# Altium footprint library PWR578A.PcbLib: 62 footprints (part 3 of 4)
Each footprint in its own frame and in the unit in brackets; x right, y up, seen from the top. Pads: shape width x height; smd on the part's side, far side on the other; paste and mask are expansions set on the pad; w line width, h text height; cw(c..) or ccw(c..) is an arc to the next point about the centre after c.
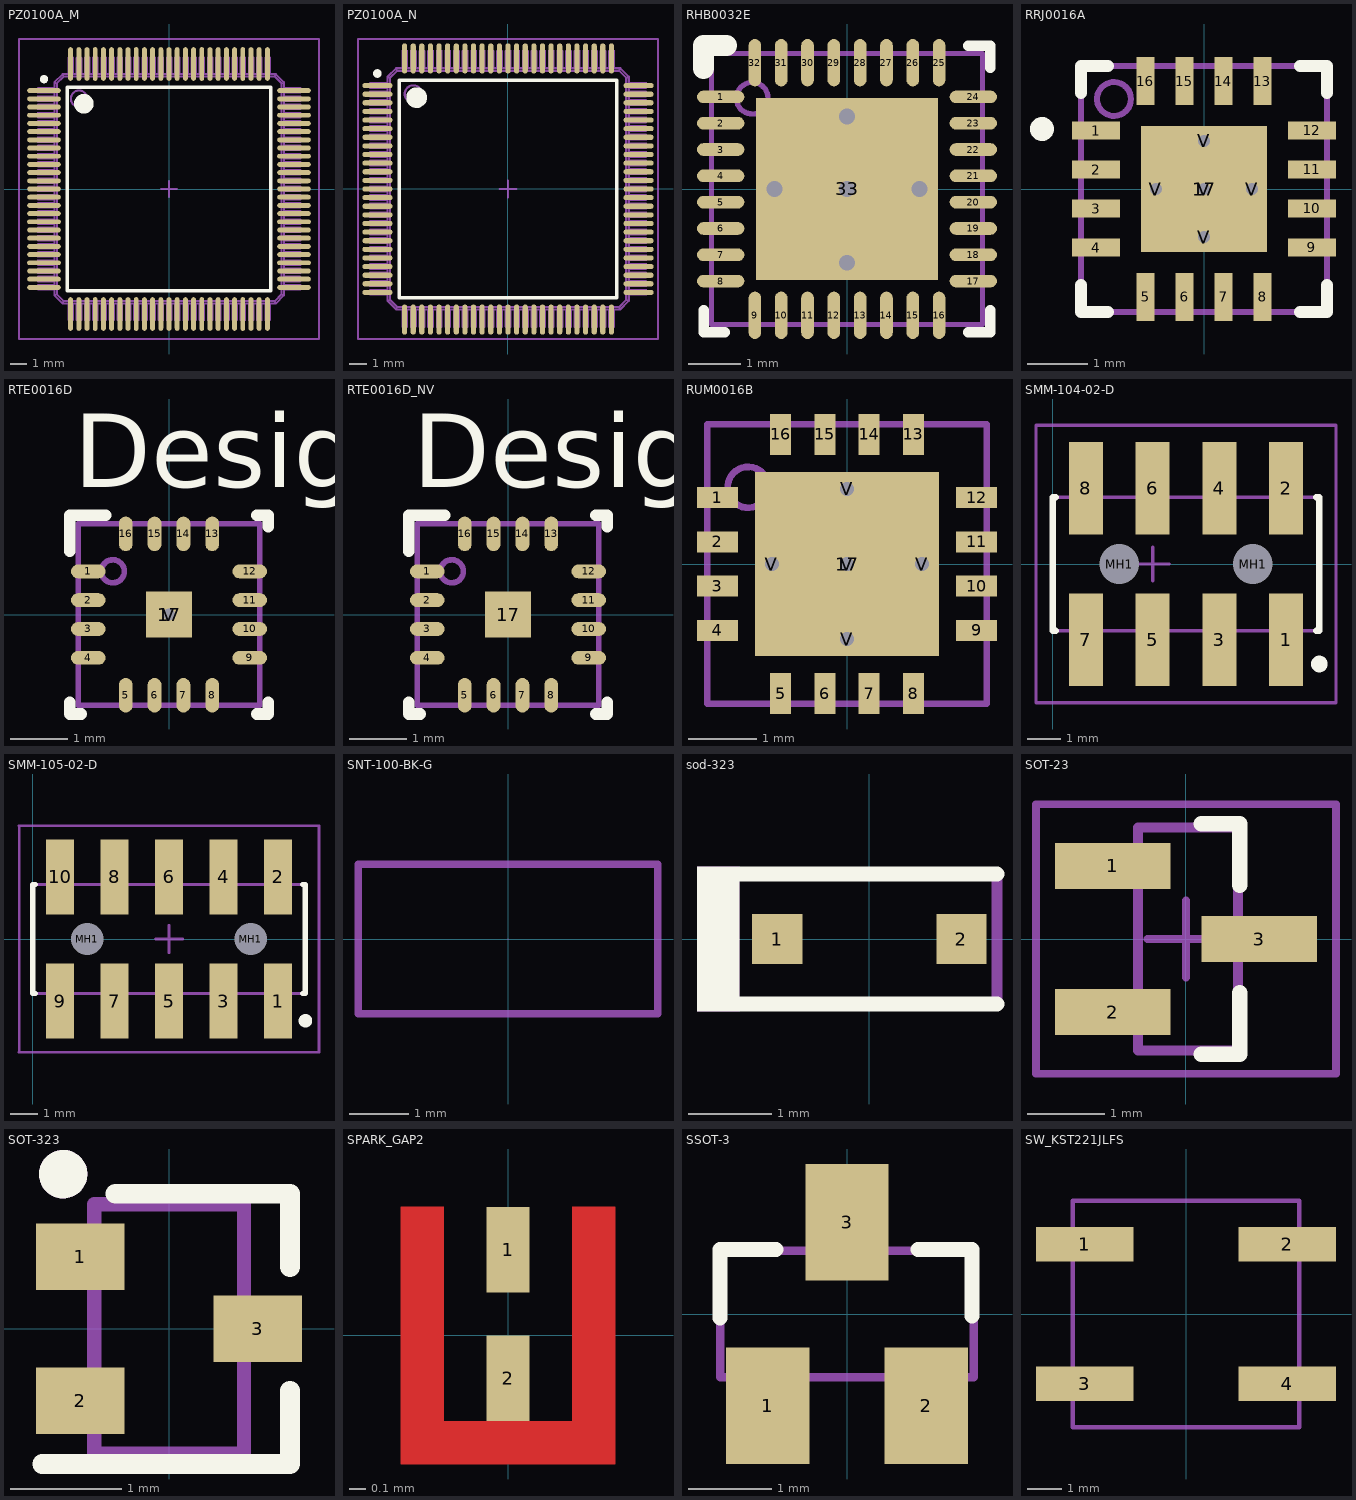
[diagram p2: the footprints below, top view; thin cyan lines are the x and y axes]

## PZ0100A_M [mm]
pads (100):
  oval 2.05x0.3 smd paste+0 mask+0.051: 1(-7.625,6) 2(-7.625,5.5) 3(-7.625,5) 4(-7.625,4.5) 5(-7.625,4) 6(-7.625,3.5) 7(-7.625,3) 8(-7.625,2.5) 9(-7.625,2) 10(-7.625,1.5) 11(-7.625,1) 12(-7.625,0.5) 13(-7.625,0) 14(-7.625,-0.5) 15(-7.625,-1) 16(-7.625,-1.5) 17(-7.625,-2) 18(-7.625,-2.5) 19(-7.625,-3) 20(-7.625,-3.5) 21(-7.625,-4) 22(-7.625,-4.5) 23(-7.625,-5) 24(-7.625,-5.5) 25(-7.625,-6) 51(7.625,-6) 52(7.625,-5.5) 53(7.625,-5) 54(7.625,-4.5) 55(7.625,-4) 56(7.625,-3.5) 57(7.625,-3) 58(7.625,-2.5) 59(7.625,-2) 60(7.625,-1.5) 61(7.625,-1) 62(7.625,-0.5) 63(7.625,0) 64(7.625,0.5) 65(7.625,1) 66(7.625,1.5) 67(7.625,2) 68(7.625,2.5) 69(7.625,3) 70(7.625,3.5) 71(7.625,4) 72(7.625,4.5) 73(7.625,5) 74(7.625,5.5) 75(7.625,6)
  oval 0.3x2.05 smd paste+0 mask+0.051: 26(-6,-7.625) 27(-5.5,-7.625) 28(-5,-7.625) 29(-4.5,-7.625) 30(-4,-7.625) 31(-3.5,-7.625) 32(-3,-7.625) 33(-2.5,-7.625) 34(-2,-7.625) 35(-1.5,-7.625) 36(-1,-7.625) 37(-0.5,-7.625) 38(0,-7.625) 39(0.5,-7.625) 40(1,-7.625) 41(1.5,-7.625) 42(2,-7.625) 43(2.5,-7.625) 44(3,-7.625) 45(3.5,-7.625) 46(4,-7.625) 47(4.5,-7.625) 48(5,-7.625) 49(5.5,-7.625) 50(6,-7.625) 76(6,7.625) 77(5.5,7.625) 78(5,7.625) 79(4.5,7.625) 80(4,7.625) 81(3.5,7.625) 82(3,7.625) 83(2.5,7.625) 84(2,7.625) 85(1.5,7.625) 86(1,7.625) 87(0.5,7.625) 88(0,7.625) 89(-0.5,7.625) 90(-1,7.625) 91(-1.5,7.625) 92(-2,7.625) 93(-2.5,7.625) 94(-3,7.625) 95(-3.5,7.625) 96(-4,7.625) 97(-4.5,7.625) 98(-5,7.625) 99(-5.5,7.625) 100(-6,7.625)
Top Overlay:
  circle w0.25: c-7.625,6.7 r0.125
  circle w0.6: c-5.2,5.2 r0.3
  lines w0.2: -6.2,-6.2 -6.2,6.2 6.2,6.2 6.2,-6.2 -6.2,-6.2
Mechanical 13:
  drawing of 1326 lines, arcs and shapes, not listed
Mechanical 15:
  lines w0.1: -0.5,0 0.5,0 ; 0,-0.5 0,0.5 ; -9.15,-9.15 -9.15,9.15 9.15,9.15 9.15,-9.15 -9.15,-9.15
3D body: height 0.25, standoff 0, extent 0,0 0.254,0.254
3D body "PZ0100A.stp": height 1.5, standoff 0, extent -8.011,-8.011 8.012,8.012

## PZ0100A_N [mm]
pads (100):
  oval 1.75x0.3 smd paste+0 mask+0.051: 1(-7.575,6) 2(-7.575,5.5) 3(-7.575,5) 4(-7.575,4.5) 5(-7.575,4) 6(-7.575,3.5) 7(-7.575,3) 8(-7.575,2.5) 9(-7.575,2) 10(-7.575,1.5) 11(-7.575,1) 12(-7.575,0.5) 13(-7.575,0) 14(-7.575,-0.5) 15(-7.575,-1) 16(-7.575,-1.5) 17(-7.575,-2) 18(-7.575,-2.5) 19(-7.575,-3) 20(-7.575,-3.5) 21(-7.575,-4) 22(-7.575,-4.5) 23(-7.575,-5) 24(-7.575,-5.5) 25(-7.575,-6) 51(7.575,-6) 52(7.575,-5.5) 53(7.575,-5) 54(7.575,-4.5) 55(7.575,-4) 56(7.575,-3.5) 57(7.575,-3) 58(7.575,-2.5) 59(7.575,-2) 60(7.575,-1.5) 61(7.575,-1) 62(7.575,-0.5) 63(7.575,0) 64(7.575,0.5) 65(7.575,1) 66(7.575,1.5) 67(7.575,2) 68(7.575,2.5) 69(7.575,3) 70(7.575,3.5) 71(7.575,4) 72(7.575,4.5) 73(7.575,5) 74(7.575,5.5) 75(7.575,6)
  oval 0.3x1.75 smd paste+0 mask+0.051: 26(-6,-7.575) 27(-5.5,-7.575) 28(-5,-7.575) 29(-4.5,-7.575) 30(-4,-7.575) 31(-3.5,-7.575) 32(-3,-7.575) 33(-2.5,-7.575) 34(-2,-7.575) 35(-1.5,-7.575) 36(-1,-7.575) 37(-0.5,-7.575) 38(0,-7.575) 39(0.5,-7.575) 40(1,-7.575) 41(1.5,-7.575) 42(2,-7.575) 43(2.5,-7.575) 44(3,-7.575) 45(3.5,-7.575) 46(4,-7.575) 47(4.5,-7.575) 48(5,-7.575) 49(5.5,-7.575) 50(6,-7.575) 76(6,7.575) 77(5.5,7.575) 78(5,7.575) 79(4.5,7.575) 80(4,7.575) 81(3.5,7.575) 82(3,7.575) 83(2.5,7.575) 84(2,7.575) 85(1.5,7.575) 86(1,7.575) 87(0.5,7.575) 88(0,7.575) 89(-0.5,7.575) 90(-1,7.575) 91(-1.5,7.575) 92(-2,7.575) 93(-2.5,7.575) 94(-3,7.575) 95(-3.5,7.575) 96(-4,7.575) 97(-4.5,7.575) 98(-5,7.575) 99(-5.5,7.575) 100(-6,7.575)
Top Overlay:
  circle w0.25: c-7.575,6.7 r0.125
  circle w0.6: c-5.3,5.3 r0.3
  lines w0.2: -6.3,-6.3 -6.3,6.3 6.3,6.3 6.3,-6.3 -6.3,-6.3
Mechanical 13:
  drawing of 1326 lines, arcs and shapes, not listed
Mechanical 15:
  lines w0.1: -0.5,0 0.5,0 ; 0,-0.5 0,0.5 ; -8.7,-8.7 -8.7,8.7 8.7,8.7 8.7,-8.7 -8.7,-8.7
3D body: height 0.25, standoff 0, extent 0,0 0.254,0.254
3D body "PZ0100A.stp": height 1.5, standoff 0, extent -8.011,-8.011 8.012,8.012

## RHB0032E [mm]
pads (33):
  oval 0.9x0.24 smd: 1(-2.4,1.75) 2(-2.4,1.25) 3(-2.4,0.75) 4(-2.4,0.25) 5(-2.4,-0.25) 6(-2.4,-0.75) 7(-2.4,-1.25) 8(-2.4,-1.75) 17(2.4,-1.75) 18(2.4,-1.25) 19(2.4,-0.75) 20(2.4,-0.25) 21(2.4,0.25) 22(2.4,0.75) 23(2.4,1.25) 24(2.4,1.75)
  oval 0.24x0.9 smd: 9(-1.75,-2.4) 10(-1.25,-2.4) 11(-0.75,-2.4) 12(-0.25,-2.4) 13(0.25,-2.4) 14(0.75,-2.4) 15(1.25,-2.4) 16(1.75,-2.4) 25(1.75,2.4) 26(1.25,2.4) 27(0.75,2.4) 28(0.25,2.4) 29(-0.25,2.4) 30(-0.75,2.4) 31(-1.25,2.4) 32(-1.75,2.4)
  rect 3.45x3.45 smd paste-1.725: 33(0,0)
via 0,-1.4 diameter 0.6 hole 0.3
via 1.375,0 diameter 0.6 hole 0.3
via 0,1.375 diameter 0.6 hole 0.3
via 0,0 diameter 0.6 hole 0.3
via -1.375,0 diameter 0.6 hole 0.3
Top Overlay:
  lines w0.2: -2.725,-2.3 -2.725,-2.725 -2.325,-2.725 ; 2.3,-2.725 2.725,-2.725 2.725,-2.3 ; 2.3,2.725 2.725,2.725 2.725,2.3
  lines w0.4: -2.725,2.29 -2.725,2.725 -2.29,2.725
Top Paste:
  rectangle: 0.1,0.1 1.586,1.586
  rectangle: 0.1,-1.586 1.586,-0.1
  region: -0.1,1.586 -1.586,1.586 -1.586,0.1 -0.1,0.1
  region: -0.1,-0.1 -1.586,-0.1 -1.586,-1.586 -0.1,-1.586
Mechanical 5:
  circle w0.1: c-1.8,1.725 r0.3
  lines w0.1: -2.575,-2.575 2.575,-2.575 2.575,2.575 -2.575,2.575 -2.575,-2.575
  text ".Designator" at -1.854,-0.508 h1.02
3D body: height 1, standoff 0, extent -2.575,-2.575 2.575,2.575

## RRJ0016A [mm]
pads (22):
  rect 0.8x0.3 smd paste+0 mask+0.051: 1(-1.8,0.975) 2(-1.8,0.325) 3(-1.8,-0.325) 4(-1.8,-0.975) 9(1.8,-0.975) 10(1.8,-0.325) 11(1.8,0.325) 12(1.8,0.975)
  rect 0.3x0.8 smd paste+0 mask+0.051: 5(-0.975,-1.8) 6(-0.325,-1.8) 7(0.325,-1.8) 8(0.975,-1.8) 13(0.975,1.8) 14(0.325,1.8) 15(-0.325,1.8) 16(-0.975,1.8)
  rect 2.1x2.1 smd paste-1.037 mask+0.051: 17(0,0)
  round 0.5 hole 0.203 mask+0.051: V(-0.8,0) V(0,-0.8) V(0,0) V(0,0.8) V(0.8,0)
Top Overlay:
  circle w0.2: c-2.7,1 r0.1
  lines w0.2: -2.05,-1.6 -2.05,-2.05 -1.6,-2.05 ; -2.05,1.6 -2.05,2.05 -1.6,2.05 ; 1.6,-2.05 2.05,-2.05 2.05,-1.6 ; 1.6,2.05 2.05,2.05 2.05,1.6
Top Paste:
  region: 0.15,0.1 0.1,0.15 0.1,0.99 0.15,1.04 0.99,1.04 1.04,0.99 1.04,0.15 0.99,0.1
  region: -0.1,0.15 -0.15,0.1 -0.99,0.1 -1.04,0.15 -1.04,0.99 -0.99,1.04 -0.15,1.04 -0.1,0.99
  region: -0.15,-0.1 -0.1,-0.15 -0.1,-0.99 -0.15,-1.04 -0.99,-1.04 -1.04,-0.99 -1.04,-0.15 -0.99,-0.1
  region: 0.1,-0.15 0.15,-0.1 0.99,-0.1 1.04,-0.15 1.04,-0.99 0.99,-1.04 0.15,-1.04 0.1,-0.99
Mechanical 13:
  circle w0.1: c-1.5,1.5 r0.283
  lines w0.1: -2.05,-2.05 2.05,-2.05 2.05,2.05 -2.05,2.05 -2.05,-2.05
  text ".Designator" at -1.8,-1.149 h1.27
3D body: height 0.25, standoff 0, extent 0,0 0.254,0.254

## RTE0016D [mm]
pads (18):
  oval 0.6x0.24 smd paste+0 mask+0.051: 1(-1.4,0.75) 2(-1.4,0.25) 3(-1.4,-0.25) 4(-1.4,-0.75) 9(1.4,-0.75) 10(1.4,-0.25) 11(1.4,0.25) 12(1.4,0.75)
  oval 0.24x0.6 smd paste+0 mask+0.051: 5(-0.75,-1.4) 6(-0.25,-1.4) 7(0.25,-1.4) 8(0.75,-1.4) 13(0.75,1.4) 14(0.25,1.4) 15(-0.25,1.4) 16(-0.75,1.4)
  rect 0.8x0.8 smd paste-0.387 mask+0.051: 17(0,0)
  round 0.5 hole 0.203 mask+0.051: V(0,0)
Top Overlay:
  lines w0.2: -1.725,-1.525 -1.725,-1.725 -1.525,-1.725 ; -1.725,1.1 -1.725,1.725 -1.1,1.725 ; 1.525,-1.725 1.725,-1.725 1.725,-1.525 ; 1.525,1.725 1.725,1.725 1.725,1.525
  text "Designator9" at -1.651,2.21 h1.27
Top Paste:
  region: -0.379,0.379 -0.379,-0.379 0.379,-0.379 0.379,0.379
Mechanical 13:
  circle w0.1: c-0.975,0.75 r0.2
  lines w0.1: -1.575,-1.575 -1.575,1.575 1.575,1.575 1.575,-1.575 -1.575,-1.575
  text ".Designator" at -1.4,-1.385 h1.27
3D body: height 0.25, standoff 0, extent 0,0 0.254,0.254
3D body "RTE0016D.stp": height 0.8, standoff 0, extent -1.5,-1.5 1.5,1.5

## RTE0016D_NV [mm]
pads (17):
  oval 0.6x0.24 smd paste+0 mask+0.051: 1(-1.4,0.75) 2(-1.4,0.25) 3(-1.4,-0.25) 4(-1.4,-0.75) 9(1.4,-0.75) 10(1.4,-0.25) 11(1.4,0.25) 12(1.4,0.75)
  oval 0.24x0.6 smd paste+0 mask+0.051: 5(-0.75,-1.4) 6(-0.25,-1.4) 7(0.25,-1.4) 8(0.75,-1.4) 13(0.75,1.4) 14(0.25,1.4) 15(-0.25,1.4) 16(-0.75,1.4)
  rect 0.8x0.8 smd paste-0.387 mask+0.051: 17(0,0)
Top Overlay:
  lines w0.2: -1.725,-1.525 -1.725,-1.725 -1.525,-1.725 ; -1.725,1.1 -1.725,1.725 -1.1,1.725 ; 1.525,-1.725 1.725,-1.725 1.725,-1.525 ; 1.525,1.725 1.725,1.725 1.725,1.525
  text "Designator9" at -1.651,2.21 h1.27
Top Paste:
  region: -0.379,0.379 -0.379,-0.379 0.379,-0.379 0.379,0.379
Mechanical 13:
  circle w0.1: c-0.975,0.75 r0.2
  lines w0.1: -1.575,-1.575 1.575,-1.575 1.575,1.575 -1.575,1.575 -1.575,-1.575
  text ".Designator" at -1.4,-1.385 h1.27
3D body: height 0.25, standoff 0, extent 0,0 0.254,0.254
3D body "RTE0016D.stp": height 0.8, standoff 0, extent -1.5,-1.5 1.5,1.5

## RUM0016B [mm]
pads (22):
  rect 0.6x0.31 smd paste+0 mask+0.051: 1(-1.9,0.975) 2(-1.9,0.325) 3(-1.9,-0.325) 4(-1.9,-0.975) 9(1.9,-0.975) 10(1.9,-0.325) 11(1.9,0.325) 12(1.9,0.975)
  rect 0.31x0.6 smd paste+0 mask+0.051: 5(-0.975,-1.9) 6(-0.325,-1.9) 7(0.325,-1.9) 8(0.975,-1.9) 13(0.975,1.9) 14(0.325,1.9) 15(-0.325,1.9) 16(-0.975,1.9)
  rect 2.7x2.7 smd paste-1.337 mask+0.051: 17(0,0)
  round 0.5 hole 0.203 mask+0.051: V(-1.1,0) V(0,-1.1) V(0,0) V(0,1.1) V(1.1,0)
Top Paste:
  region: 0.15,-0.1 0.1,-0.15 0.1,-1.24 0.15,-1.29 1.24,-1.29 1.29,-1.24 1.29,-0.15 1.24,-0.1
  region: -0.15,-0.1 -0.1,-0.15 -0.1,-1.24 -0.15,-1.29 -1.24,-1.29 -1.29,-1.24 -1.29,-0.15 -1.24,-0.1
  region: -0.15,0.1 -0.1,0.15 -0.1,1.24 -0.15,1.29 -1.24,1.29 -1.29,1.24 -1.29,0.15 -1.24,0.1
  region: 0.15,0.1 0.1,0.15 0.1,1.24 0.15,1.29 1.24,1.29 1.29,1.24 1.29,0.15 1.24,0.1
Mechanical 13:
  circle w0.1: c-1.45,1.125 r0.3
  lines w0.1: -2.05,-2.05 -2.05,2.05 2.05,2.05 2.05,-2.05 -2.05,-2.05
3D body: height 0.25, standoff 0, extent 0,0 0.254,0.254

## SMM-104-02-D [mm] "Connector, Socket Strip, Double Row, SMT, 8 Position, Vertical, Pitch 2mm, Body 20 x 4 mm (LxW)"
height 3.56
pads (10):
  rect 1.02x2.77 smd: 1(7,-2.275) 2(7,2.275) 3(5,-2.275) 4(5,2.275) 5(3,-2.275) 6(3,2.275) 7(1,-2.275) 8(1,2.275)
  round 0.89 hole 1.19: MH1(2,0) MH1(5.999,0)
Top Overlay:
  circle w0.25: c8,-3 r0.125
  lines w0.2: 0.09,-2 0,-2 0,2 0.09,2 ; 7.91,-2 8,-2 8,2 7.91,2
Mechanical 13:
  lines w0.1: 0,-2 0,2 8,2 8,-2 0,-2
Mechanical 15:
  lines w0.1: 2.5,0 3.5,0 ; 3,-0.5 3,0.5 ; -0.5,-4.16 -0.5,4.16 8.5,4.16 8.5,-4.16 -0.5,-4.16
3D body "SMM-104-02-S-D-LC.stp": height 3.56, standoff -1.4, extent 0,-3.146 7.996,3.146

## SMM-105-02-D [mm] "Connector, Socket Strip, Double Row, SMT, 20 Position, Vertical, Pitch 2mm, Body 20 x 4 mm (LxW)"
height 3.56
pads (12):
  rect 1.02x2.77 smd: 1(9,-2.275) 2(9,2.275) 3(7,-2.275) 4(7,2.275) 5(5,-2.275) 6(5,2.275) 7(3,-2.275) 8(3,2.275) 9(1,-2.275) 10(1,2.275)
  round 0.89 hole 1.19: MH1(2,0) MH1(7.999,0)
Top Overlay:
  circle w0.25: c10,-3 r0.125
  lines w0.2: 0.09,-2 0,-2 0,2 0.09,2 ; 9.91,-2 10,-2 10,2 9.91,2
Mechanical 13:
  lines w0.1: 0,-2 0,2 10,2 10,-2 0,-2
Mechanical 15:
  lines w0.1: -0.508,-4.16 10.5,-4.16 10.5,4.16 -0.508,4.16 ; -0.5,-4.16 -0.5,4.16 ; 4.5,0 5.5,0 ; 5,-0.5 5,0.5
3D body "SMM-105-02-S-D-LC.stp": height 3.56, standoff -1.4, extent -0.044,-3.273 9.951,3.019

## SNT-100-BK-G [mil]
pads (1):
  round 1 on Mech3: 0(0,0)
Mechanical 5:
  lines w5: -100,-50 100,-50 100,50 -100,50 -100,-50
3D body "SNT-100-XX-X.stp": height 344, standoff 104, extent -100,-50.05 100,50.05

## sod-323 [mm]
pads (2):
  rect 0.6x0.6 smd paste-0.05: 1(-1.1,0) 2(1.1,0)
Top Overlay:
  rectangle: -2.057,-0.864 -1.549,0.864
  lines w0.178: -1.803,-0.775 0.1,-0.775 1.525,-0.775 ; -1.803,0.775 0.1,0.775 1.525,0.775
Mechanical 5:
  rectangle: -2.057,-0.864 -1.549,0.864
  lines w0.127: -1.803,-0.775 0.1,-0.775 1.525,-0.775 1.525,0.775 0.1,0.775 -1.803,0.775
  text ".Designator" at -1.4,-0.275 h0.76
3D body "SOD-323.stp": height 1.1, standoff 0, extent -1.3,-0.675 1.3,0.675

## SOT-23 [mm]
pads (3):
  rect 1.5x0.6 smd: 1(-0.95,0.95) 2(-0.95,-0.95) 3(0.95,0)
Top Overlay:
  lines w0.2: 0.2,-1.5 0.7,-1.5 0.7,-0.7 ; 0.2,1.5 0.7,1.5 0.7,0.7
Mechanical 5:
  lines w0.127: -1.16,-1.15 -0.625,-1.15 -0.625,-1.45 0.675,-1.45 0.675,-0.2 1.21,-0.2 1.21,0.2 0.675,0.2 0.675,1.45 -0.625,1.45 -0.625,1.15 -1.16,1.15 -1.16,0.75 -0.625,0.75 -0.625,-0.75 -1.16,-0.75 -1.16,-1.15
  text ".Designator" at -0.175,1.225 h0.64
Mechanical 15:
  lines w0.1: -0.5,0 0.5,0 ; 0,-0.5 0,0.5 ; -1.95,-1.75 1.95,-1.75 1.95,1.75 -1.95,1.75 -1.95,-1.75
3D body "SW3dPS-sot-3p290x130ll237h100.STEP": height 1, standoff 0, extent -1.16,-1.45 1.21,1.45

## SOT-323 [mm]
pads (3):
  rect 0.8x0.6 smd: 1(-0.8,0.65) 2(-0.8,-0.65) 3(0.8,0)
Top Overlay:
  circle w0.254: c-0.955,1.397 r0.092
  lines w0.178: -1.143,-1.219 1.092,-1.219 1.092,-0.559 ; -0.483,1.219 1.092,1.219 1.092,0.559
Mechanical 5:
  circle w0.254: c-0.955,1.397 r0.092
  lines w0.127: -1.125,-0.8 -0.975,-0.8 -0.935,-0.8 -0.884,-0.8 -0.725,-0.8 -0.675,-0.8 -0.675,-0.5 -0.725,-0.5 -0.884,-0.5 -0.935,-0.5 -0.975,-0.5 -1.125,-0.5 -1.125,-0.8 ; -1.125,0.5 -0.975,0.5 -0.935,0.5 -0.884,0.5 -0.725,0.5 -0.675,0.5 -0.675,0.8 -0.725,0.8 -0.884,0.8 -0.935,0.8 -0.975,0.8 -1.125,0.8 -1.125,0.5 ; -0.675,-1.125 0.675,-1.125 0.675,1.125 -0.675,1.125 -0.675,-1.125 ; 0.675,-0.15 0.725,-0.15 0.884,-0.15 0.935,-0.15 0.975,-0.15 1.125,-0.15 1.125,0.15 0.975,0.15 0.935,0.15 0.884,0.15 0.725,0.15 0.675,0.15 0.675,-0.15
  text ".Designator" at -0.25,0.925 h0.51
3D body "SC-70.stp": height 1.13, standoff 0.02, extent -1.125,-1.125 1.125,1.125

## SPARK_GAP2 [mil]
pads (2):
  rect 10x20 smd: 1(0,20) 2(0,-10)
Top Layer:
  region: -15,30 -25,30 -25,-30 25,-30 25,30 15,30 15,-20 -15,-20
Top Solder:
  region: -25,-30 25,-30 25,40 -25,40

## SSOT-3 [mm]
pads (3):
  rect 1x1.4 smd: 1(-0.95,-1.1) 2(0.95,-1.1) 3(0,1.1)
Top Overlay:
  lines w0.18: -1.525,-0.05 -1.525,0.775 -0.85,0.775 ; 0.85,0.775 1.5,0.775 1.5,-0.025
Mechanical 5:
  lines w0.1: -1.52,-0.76 1.52,-0.76 1.52,0.76 -1.52,0.76 -1.52,-0.76
  text ".Designator" at -1.3,-0.4 h0.7
3D body: height 1.12, standoff 0, extent -1.519,-0.759 1.519,0.759

## SW_KST221JLFS [mm]
pads (4):
  rect 2.8x1 smd: 1(-2.9,2) 2(2.9,2) 3(-2.9,-2) 4(2.9,-2)
Mechanical 5:
  lines w0.127: -3.25,-3.25 -3.25,3.25 3.25,3.25 3.25,-3.25 -3.25,-3.25
  text ".Designator" at -2.311,-0.457 h1.02
3D body: height 5, standoff 2.5, extent -1.399,-1.399 1.399,1.399
3D body: height 2.9, standoff 0, extent -3.249,-3.249 3.249,3.249